# Altium schematic symbol library max3221ecdb.SchLib: 1 symbol
Pins are listed as number, name and electrical type; pins without a type are passive.

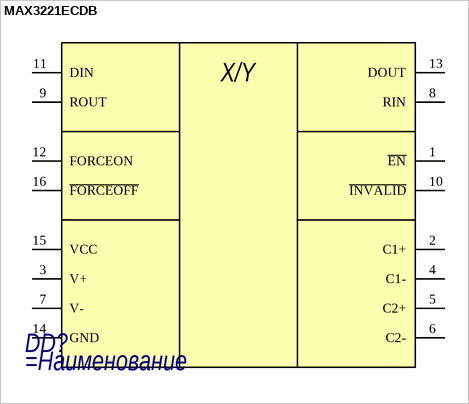
[diagram p0: symbol MAX3221ECDB]

## MAX3221ECDB
designator DD?
=Описание
pins: 1 ~{EN}, 2 C1+, 3 V+, 4 C1-, 5 C2+, 6 C2-, 7 V-, 8 RIN, 9 ROUT, 10 ~{INVALID}, 11 DIN "I\N\V\A\L\I\D\", 12 FORCEON, 13 DOUT, 14 GND, 15 VCC, 16 ~{FORCEOFF}
text: X/Y